# Altium footprint library 50pin.PcbLib: 1 footprints
Each footprint in its own frame and in the unit in brackets; x right, y up, seen from the top. Pads: shape width x height; smd on the part's side, far side on the other; paste and mask are expansions set on the pad; w line width, h text height; cw(c..) or ccw(c..) is an arc to the next point about the centre after c.
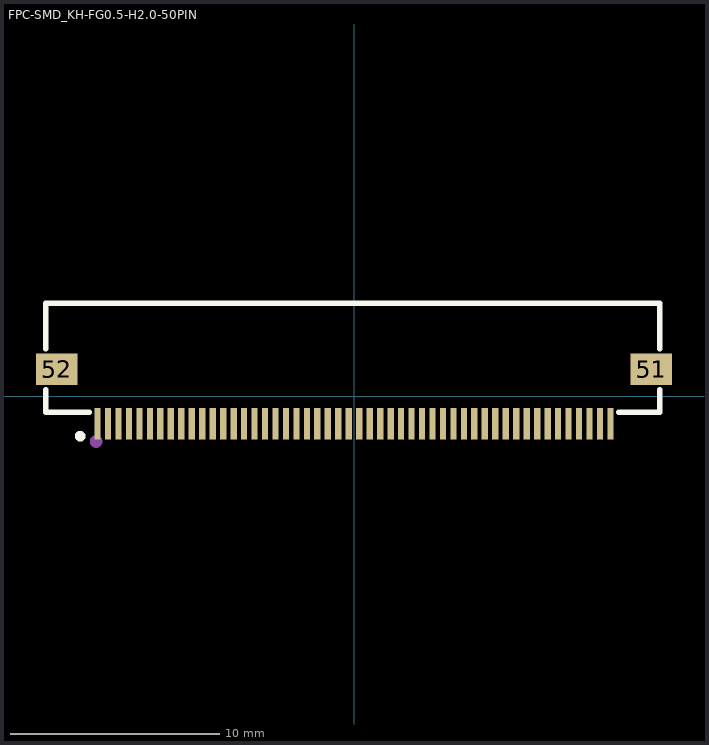
[diagram p0: the footprint, top view; thin cyan lines are the x and y axes]

## FPC-SMD_KH-FG0.5-H2.0-50PIN [mm]
pads (52):
  rect 0.3x1.5 smd: 1(-12.25,-1.3) 2(-11.75,-1.3) 3(-11.25,-1.3) 4(-10.75,-1.3) 5(-10.25,-1.3) 6(-9.75,-1.3) 7(-9.25,-1.3) 8(-8.75,-1.3) 9(-8.25,-1.3) 10(-7.75,-1.3) 11(-7.25,-1.3) 12(-6.75,-1.3) 13(-6.25,-1.3) 14(-5.75,-1.3) 15(-5.25,-1.3) 16(-4.75,-1.3) 17(-4.25,-1.3) 18(-3.75,-1.3) 19(-3.25,-1.3) 20(-2.75,-1.3) 21(-2.25,-1.3) 22(-1.75,-1.3) 23(-1.25,-1.3) 24(-0.75,-1.3) 25(-0.25,-1.3) 26(0.25,-1.3) 27(0.75,-1.3) 28(1.25,-1.3) 29(1.75,-1.3) 30(2.25,-1.3) 31(2.75,-1.3) 32(3.25,-1.3) 33(3.75,-1.3) 34(4.25,-1.3) 35(4.75,-1.3) 36(5.25,-1.3) 37(5.75,-1.3) 38(6.25,-1.3) 39(6.75,-1.3) 40(7.25,-1.3) 41(7.75,-1.3) 42(8.25,-1.3) 43(8.75,-1.3) 44(9.25,-1.3) 45(9.75,-1.3) 46(10.25,-1.3) 47(10.75,-1.3) 48(11.25,-1.3) 49(11.75,-1.3) 50(12.25,-1.3)
  rect 2x1.5 smd: 51(14.2,1.3) 52(-14.2,1.3)
Top Overlay:
  circle w0.254: c-13.081,-1.905 r0.127
  lines w0.254: -14.732,0.319 -14.732,-0.762 -12.631,-0.762 ; -14.732,2.281 -14.732,4.445 -14.605,4.445 14.605,4.445 14.605,2.281 ; 12.631,-0.762 14.605,-0.762 14.605,0.319
Mechanical 15:
  circle w0.3: c-12.319,-2.159 r0.15